# Altium integrated library AD Operational Amplifier.IntLib: 1114 symbols (part 1 of 13)
Pins are listed as number, name and electrical type; pins without a type are passive.

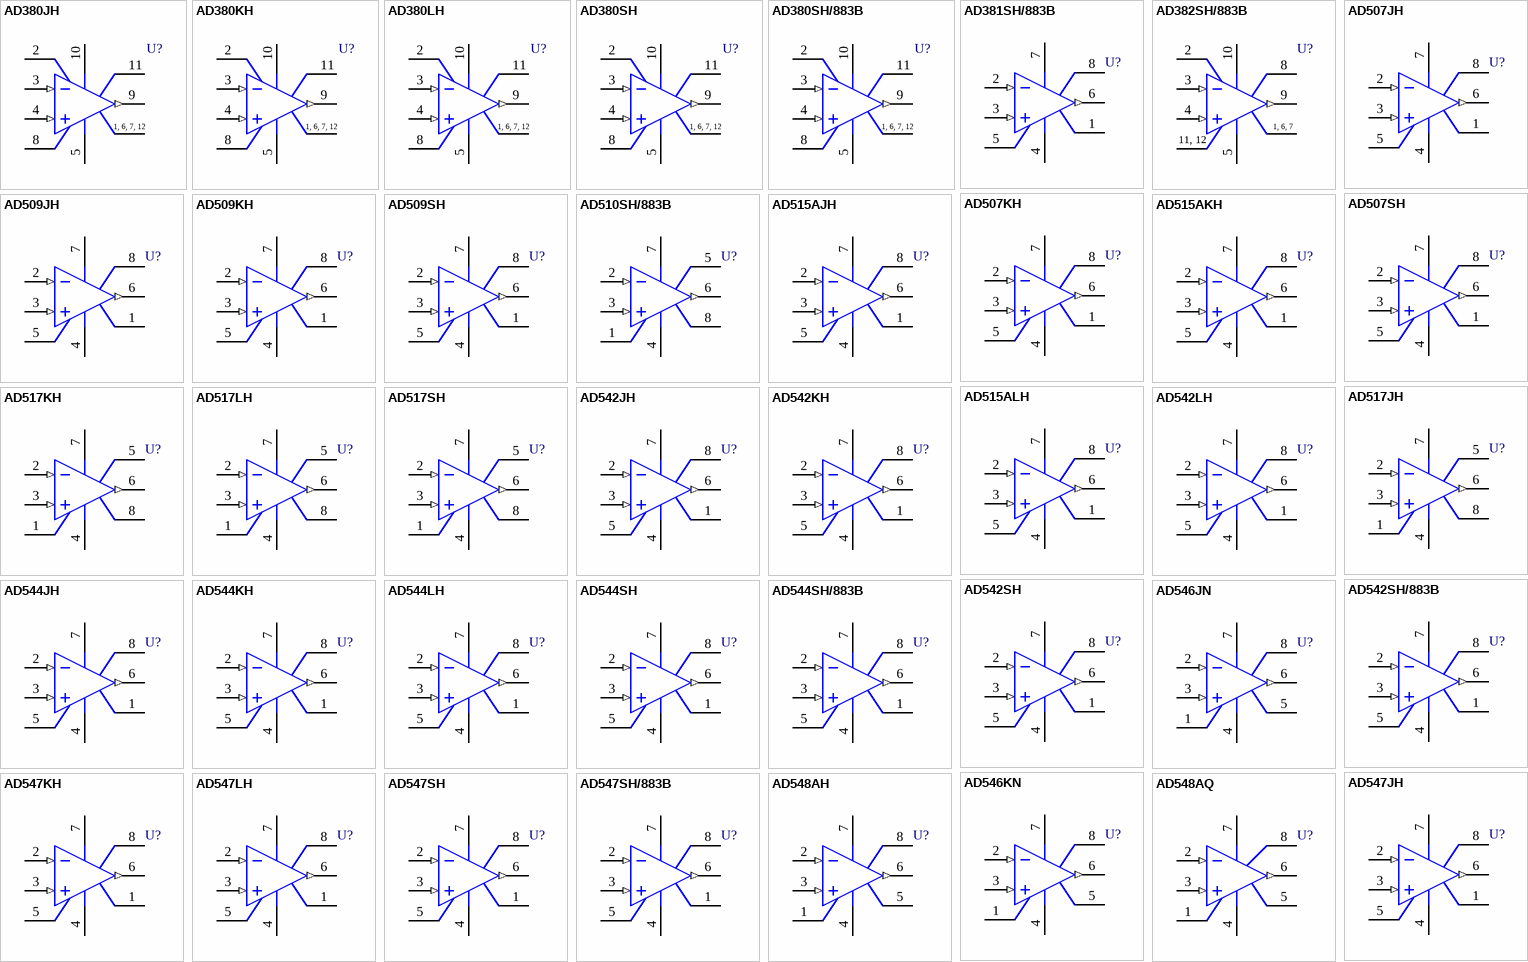
[diagram p0: symbols AD380JH to AD548AQ]

## AD380JH
designator U?
Wideband, Fast-Settling FET-Input Operational Amplifier; Package Information: Latest Revision: revC, 1990; Published: 8-Jun-2000; Revision: 17-Jul-2002: Re-released for DXP Platform.; Datasheet: Amplifier Reference Manual (1992); Package Reference: H-12A; Publisher: Altium Limited
footprint H-12A (Can; 12 Leads; 10.16 mm Square Array; Lead Dia. 0.53 mm (max))
pins: 1 NC, 2 OS NUL, 3 IN- (in), 4 IN+ (in), 5 V- (power), 6 NC, 7 NC, 8 OS NUL, 9 OUT (out), 10 V+ (power), 11 COMP, 12 NC
text: 1, 6, 7, 12

## AD380KH
designator U?
Wideband, Fast-Settling FET-Input Operational Amplifier; Package Information: Latest Revision: revC, 1990; Published: 8-Jun-2000; Revision: 17-Jul-2002: Re-released for DXP Platform.; Datasheet: Amplifier Reference Manual (1992); Package Reference: H-12A; Publisher: Altium Limited
footprint H-12A (Can; 12 Leads; 10.16 mm Square Array; Lead Dia. 0.53 mm (max))
pins: 1 NC, 2 OS NUL, 3 IN- (in), 4 IN+ (in), 5 V- (power), 6 NC, 7 NC, 8 OS NUL, 9 OUT (out), 10 V+ (power), 11 COMP, 12 NC
text: 1, 6, 7, 12

## AD380LH
designator U?
Wideband, Fast-Settling FET-Input Operational Amplifier; Package Information: Latest Revision: revC, 1990; Published: 8-Jun-2000; Revision: 17-Jul-2002: Re-released for DXP Platform.; Datasheet: Amplifier Reference Manual (1992); Package Reference: H-12A; Publisher: Altium Limited
footprint H-12A (Can; 12 Leads; 10.16 mm Square Array; Lead Dia. 0.53 mm (max))
pins: 1 NC, 2 OS NUL, 3 IN- (in), 4 IN+ (in), 5 V- (power), 6 NC, 7 NC, 8 OS NUL, 9 OUT (out), 10 V+ (power), 11 COMP, 12 NC
text: 1, 6, 7, 12

## AD380SH
designator U?
Wideband, Fast-Settling FET-Input Operational Amplifier; Package Information: Latest Revision: revC, 1990; Published: 8-Jun-2000; Revision: 17-Jul-2002: Re-released for DXP Platform.; Datasheet: Amplifier Reference Manual (1992); Package Reference: H-12A; Publisher: Altium Limited
footprint H-12A (Can; 12 Leads; 10.16 mm Square Array; Lead Dia. 0.53 mm (max))
pins: 1 NC, 2 OS NUL, 3 IN- (in), 4 IN+ (in), 5 V- (power), 6 NC, 7 NC, 8 OS NUL, 9 OUT (out), 10 V+ (power), 11 COMP, 12 NC
text: 1, 6, 7, 12

## AD380SH/883B
designator U?
High-Speed, Low-Drift FET Operational Amplifier; Package Information: Latest Revision: revC, 1990; Published: 8-Jun-2000; Revision: 17-Jul-2002: Re-released for DXP Platform.; Datasheet: Latest Revision: REV. C 1990; Package Reference: H-12A; Publisher: Altium Limited
footprint H-12A (Can; 12 Leads; 10.16 mm Square Array; Lead Dia. 0.53 mm (max))
pins: 1 NC, 2 OS NUL, 3 IN- (in), 4 IN+ (in), 5 V- (power), 6 NC, 7 NC, 8 OS NUL, 9 OUT (out), 10 V+ (power), 11 COMP, 12 NC
text: 1, 6, 7, 12

## AD381SH/883B
designator U?
High-Speed, Low Drift FET Operational Amplifier; Package Information: Latest Revision: 1990; Code - JEDEC: MO-006-AH; Published: 8-Jun-2000; Revision: 17-Jul-2002: Re-released for DXP Platform.; Datasheet: Latest Revision: REV. C 1990; Package Reference: H-08B; Publisher: Altium Limited
footprint H-08B (Can; 8 Leads; Pin Circle Dia. 5.84 mm; Lead Dia. 0.53 mm (max))
pins: 1 OS NUL, 2 IN- (in), 3 IN+ (in), 4 V- (power), 5 OS NUL, 6 OUT (out), 7 V+ (power), 8 TAB

## AD382SH/883B
designator U?
High-Speed, Low Drift FET Operational Amplifier; Package Information: Latest Revision: revC, 1990; Note: Pins 1, 6, 7, 11 and 12 are not connected; Published: 8-Jun-2000; Revision: 17-Jul-2002: Re-released for DXP Platform.; Datasheet: Latest Revision: REV. C 1990; Package Reference: H-12A; Publisher: Altium Limited
footprint H-12A (Can; 12 Leads; 10.16 mm Square Array; Lead Dia. 0.53 mm (max))
pins: 1 NC, 2 OS NUL, 3 IN- (in), 4 IN+ (in), 5 V- (power), 6 NC, 7 NC, 8 OS NUL, 9 OUT (out), 10 V+ (power), 11 NC, 12 NC
text: 1, 6, 7; 11, 12

## AD507JH
designator U?
IC, Wideband, Fast Slewing, General Purpose Operational Amplifier; Package Information: Latest Revision: 1990; Published: 8-Jun-2000; Revision: 17-Jul-2002: Re-released for DXP Platform.; Datasheet: Amplifier Reference Manual (1992); Package Reference: H-08A; Publisher: Altium Limited
footprint H-08A (Can; 8 Leads; Pin Circle Dia. 5.08 mm; Lead Dia. 0.53 mm (max))
pins: 1 OS NUL, 2 IN- (in), 3 IN+ (in), 4 V- (power), 5 OS NUL, 6 OUT (out), 7 V+ (power), 8 F CMPEN

## AD507KH
designator U?
IC, Wideband, Fast Slewing, General Purpose Operational Amplifier; Package Information: Latest Revision: 1990; Published: 8-Jun-2000; Revision: 17-Jul-2002: Re-released for DXP Platform.; Datasheet: Amplifier Reference Manual (1992); Package Reference: H-08A; Publisher: Altium Limited
footprint H-08A (Can; 8 Leads; Pin Circle Dia. 5.08 mm; Lead Dia. 0.53 mm (max))
pins: 1 OS NUL, 2 IN- (in), 3 IN+ (in), 4 V- (power), 5 OS NUL, 6 OUT (out), 7 V+ (power), 8 F CMPEN

## AD507SH
designator U?
IC, Wideband, Fast Slewing, General Purpose Operational Amplifier; Package Information: Latest Revision: 1990; Published: 8-Jun-2000; Revision: 17-Jul-2002: Re-released for DXP Platform.; Datasheet: Amplifier Reference Manual (1992); Package Reference: H-08A; Publisher: Altium Limited
footprint H-08A (Can; 8 Leads; Pin Circle Dia. 5.08 mm; Lead Dia. 0.53 mm (max))
pins: 1 OS NUL, 2 IN- (in), 3 IN+ (in), 4 V- (power), 5 OS NUL, 6 OUT (out), 7 V+ (power), 8 F CMPEN

## AD509JH
designator U?
High-Speed, Fast-Settling IC Operational Amplifier; Package Information: Latest Revision: 1990; Published: 8-Jun-2000; Revision: 17-Jul-2002: Re-released for DXP Platform.; Datasheet: Amplifier Reference Manual (1992); Package Reference: H-08A; Publisher: Altium Limited
footprint H-08A (Can; 8 Leads; Pin Circle Dia. 5.08 mm; Lead Dia. 0.53 mm (max))
pins: 1 OS NUL, 2 IN- (in), 3 IN+ (in), 4 V- (power), 5 OS NUL, 6 OUT (out), 7 V+ (power), 8 F CMPEN

## AD509KH
designator U?
High-Speed, Fast-Settling IC Operational Amplifier; Package Information: Latest Revision: 1990; Published: 8-Jun-2000; Revision: 17-Jul-2002: Re-released for DXP Platform.; Datasheet: Amplifier Reference Manual (1992); Package Reference: H-08A; Publisher: Altium Limited
footprint H-08A (Can; 8 Leads; Pin Circle Dia. 5.08 mm; Lead Dia. 0.53 mm (max))
pins: 1 OS NUL, 2 IN- (in), 3 IN+ (in), 4 V- (power), 5 OS NUL, 6 OUT (out), 7 V+ (power), 8 F CMPEN

## AD509SH
designator U?
High-Speed, Fast-Settling IC Operational Amplifier; Package Information: Latest Revision: 1990; Published: 8-Jun-2000; Revision: 17-Jul-2002: Re-released for DXP Platform.; Datasheet: Amplifier Reference Manual (1992); Package Reference: H-08A; Publisher: Altium Limited
footprint H-08A (Can; 8 Leads; Pin Circle Dia. 5.08 mm; Lead Dia. 0.53 mm (max))
pins: 1 OS NUL, 2 IN- (in), 3 IN+ (in), 4 V- (power), 5 OS NUL, 6 OUT (out), 7 V+ (power), 8 F CMPEN

## AD510SH/883B
designator U?
Low Cost, Laser-Trimmed, Precision IC Op Amp; Package Information: Latest Revision: 1990; Note: Pin 5 is not connected.; Published: 8-Jun-2000; Revision: 17-Jul-2002: Re-released for DXP Platform.; Datasheet: Latest Revision: REV. B 1990; Package Reference: H-08A; Publisher: Altium Limited
footprint H-08A (Can; 8 Leads; Pin Circle Dia. 5.08 mm; Lead Dia. 0.53 mm (max))
pins: 1 OS NULL, 2 IN- (in), 3 IN+ (in), 4 V- (power), 5 NC, 6 OUT (out), 7 V+ (power), 8 OS NULL

## AD515AJH
designator U?
Monolithic Precision, Low-Power FET-Input Electrometer Op Amp; Package Information: Latest Revision: 1997; Note: Guard Pin 8 connected to case; Published: 8-Jun-2000; Revision: 17-Jul-2002: Re-released for DXP Platform.; Datasheet: Designer's Reference Manual CD (REV. A 1997); Package Reference: H-08A_A; Publisher: Altium Limited
footprint H-08A_A (Can; 8 Leads; Pin Circle Dia. 5.08 mm; Lead Dia. 0.48 mm (max))
pins: 1 OS NUL, 2 IN- (in), 3 IN+ (in), 4 V- (power), 5 OS NUL, 6 OUT (out), 7 V+ (power), 8 TAB

## AD515AKH
designator U?
Monolithic Precision, Low-Power FET-Input Electrometer Op Amp; Package Information: Latest Revision: 1997; Note: Guard Pin 8 connected to case; Published: 8-Jun-2000; Revision: 17-Jul-2002: Re-released for DXP Platform.; Datasheet: Designer's Reference Manual CD (REV. A 1997); Package Reference: H-08A_A; Publisher: Altium Limited
footprint H-08A_A (Can; 8 Leads; Pin Circle Dia. 5.08 mm; Lead Dia. 0.48 mm (max))
pins: 1 OS NUL, 2 IN- (in), 3 IN+ (in), 4 V- (power), 5 OS NUL, 6 OUT (out), 7 V+ (power), 8 TAB

## AD515ALH
designator U?
Monolithic Precision, Low-Power FET-Input Electrometer Op Amp; Package Information: Latest Revision: 1997; Note: Guard Pin 8 connected to case; Published: 8-Jun-2000; Revision: 17-Jul-2002: Re-released for DXP Platform.; Datasheet: Designer's Reference Manual CD (REV. A 1997); Package Reference: H-08A_A; Publisher: Altium Limited
footprint H-08A_A (Can; 8 Leads; Pin Circle Dia. 5.08 mm; Lead Dia. 0.48 mm (max))
pins: 1 OS NUL, 2 IN- (in), 3 IN+ (in), 4 V- (power), 5 OS NUL, 6 OUT (out), 7 V+ (power), 8 TAB

## AD517JH
designator U?
Low Cost, Laser Trimmed, Precision IC Operational Amplifier; Package Information: Latest Revision: 1990; Note: Pin 5 is not connected.; Code - JEDEC: MO-006-AH; Published: 8-Jun-2000; Revision: 17-Jul-2002: Re-released for DXP Platform.; Datasheet: Amplifier Reference Manual (1992); Package Reference: H-08B; Publisher: Altium Limited
footprint H-08B (Can; 8 Leads; Pin Circle Dia. 5.84 mm; Lead Dia. 0.53 mm (max))
pins: 1 OS NULL, 2 IN- (in), 3 IN+ (in), 4 V- (power), 5 NC, 6 OUT (out), 7 V+ (power), 8 OS NULL

## AD517KH
designator U?
Low Cost, Laser Trimmed, Precision IC Operational Amplifier; Package Information: Latest Revision: 1990; Note: Pin 5 is not connected.; Code - JEDEC: MO-006-AH; Published: 8-Jun-2000; Revision: 17-Jul-2002: Re-released for DXP Platform.; Datasheet: Amplifier Reference Manual (1992); Package Reference: H-08B; Publisher: Altium Limited
footprint H-08B (Can; 8 Leads; Pin Circle Dia. 5.84 mm; Lead Dia. 0.53 mm (max))
pins: 1 OS NULL, 2 IN- (in), 3 IN+ (in), 4 V- (power), 5 NC, 6 OUT (out), 7 V+ (power), 8 OS NULL

## AD517LH
designator U?
Low Cost, Laser Trimmed, Precision IC Operational Amplifier; Package Information: Latest Revision: 1990; Note: Pin 5 is not connected.; Code - JEDEC: MO-006-AH; Published: 8-Jun-2000; Revision: 17-Jul-2002: Re-released for DXP Platform.; Datasheet: Amplifier Reference Manual (1992); Package Reference: H-08B; Publisher: Altium Limited
footprint H-08B (Can; 8 Leads; Pin Circle Dia. 5.84 mm; Lead Dia. 0.53 mm (max))
pins: 1 OS NULL, 2 IN- (in), 3 IN+ (in), 4 V- (power), 5 NC, 6 OUT (out), 7 V+ (power), 8 OS NULL

## AD517SH
designator U?
Low Cost, Laser Trimmed, Precision IC Operational Amplifier; Package Information: Latest Revision: 1990; Note: Pin 5 is not connected.; Code - JEDEC: MO-006-AH; Published: 8-Jun-2000; Revision: 17-Jul-2002: Re-released for DXP Platform.; Datasheet: Amplifier Reference Manual (1992); Package Reference: H-08B; Publisher: Altium Limited
footprint H-08B (Can; 8 Leads; Pin Circle Dia. 5.84 mm; Lead Dia. 0.53 mm (max))
pins: 1 OS NULL, 2 IN- (in), 3 IN+ (in), 4 V- (power), 5 NC, 6 OUT (out), 7 V+ (power), 8 OS NULL

## AD542JH
designator U?
High Performance, BiFET Operational Amplifier; Package Information: Latest Revision: revB; Note: Pin 4 connected to case.; Code - JEDEC: MO-006-AH; Published: 8-Jun-2000; Revision: 17-Jul-2002: Re-released for DXP Platform.; Datasheet: Latest Revision: REV. B; Package Reference: H-08A_B; Publisher: Altium Limited
footprint H-08A_B (Can; 8 Leads; Pin Circle Dia. 5.84 mm; Lead Dia. 0.53 mm (max))
pins: 1 NUL, 2 IN- (in), 3 IN+ (in), 4 V- (power), 5 NUL, 6 OUT (out), 7 V+ (power), 8 TAB

## AD542KH
designator U?
High Performance, BiFET Operational Amplifier; Package Information: Latest Revision: revB; Note: Pin 4 connected to case.; Code - JEDEC: MO-006-AH; Published: 8-Jun-2000; Revision: 17-Jul-2002: Re-released for DXP Platform.; Datasheet: Latest Revision: REV. B; Package Reference: H-08A_B; Publisher: Altium Limited
footprint H-08A_B (Can; 8 Leads; Pin Circle Dia. 5.84 mm; Lead Dia. 0.53 mm (max))
pins: 1 NUL, 2 IN- (in), 3 IN+ (in), 4 V- (power), 5 NUL, 6 OUT (out), 7 V+ (power), 8 TAB

## AD542LH
designator U?
High Performance, BiFET Operational Amplifier; Package Information: Latest Revision: revB; Note: Pin 4 connected to case.; Code - JEDEC: MO-006-AH; Published: 8-Jun-2000; Revision: 17-Jul-2002: Re-released for DXP Platform.; Datasheet: Latest Revision: REV. B; Package Reference: H-08A_B; Publisher: Altium Limited
footprint H-08A_B (Can; 8 Leads; Pin Circle Dia. 5.84 mm; Lead Dia. 0.53 mm (max))
pins: 1 NUL, 2 IN- (in), 3 IN+ (in), 4 V- (power), 5 NUL, 6 OUT (out), 7 V+ (power), 8 TAB

## AD542SH
designator U?
High Performance, BiFET Operational Amplifier; Package Information: Latest Revision: revB; Note: Pin 4 connected to case.; Code - JEDEC: MO-006-AH; Published: 8-Jun-2000; Revision: 17-Jul-2002: Re-released for DXP Platform.; Datasheet: Latest Revision: REV. B; Package Reference: H-08A_B; Publisher: Altium Limited
footprint H-08A_B (Can; 8 Leads; Pin Circle Dia. 5.84 mm; Lead Dia. 0.53 mm (max))
pins: 1 NUL, 2 IN- (in), 3 IN+ (in), 4 V- (power), 5 NUL, 6 OUT (out), 7 V+ (power), 8 TAB

## AD542SH/883B
designator U?
High Performance, BiFET Operational Amplifier; Package Information: Latest Revision: revB; Note: Pin 4 connected to case.; Code - JEDEC: MO-006-AH; Published: 8-Jun-2000; Revision: 17-Jul-2002: Re-released for DXP Platform.; Datasheet: Latest Revision: REV. B; Package Reference: H-08A_B; Publisher: Altium Limited
footprint H-08A_B (Can; 8 Leads; Pin Circle Dia. 5.84 mm; Lead Dia. 0.53 mm (max))
pins: 1 NUL, 2 IN- (in), 3 IN+ (in), 4 V- (power), 5 NUL, 6 OUT (out), 7 V+ (power), 8 TAB

## AD544JH
designator U?
High Performance, BiFET Operational Amplifier; Package Information: Latest Revision: revB; Note: Pin 4 connected to case.; Code - JEDEC: MO-006-AH; Published: 8-Jun-2000; Revision: 17-Jul-2002: Re-released for DXP Platform.; Datasheet: Latest Revision: REV. B; Package Reference: H-08A_B; Publisher: Altium Limited
footprint H-08A_B (Can; 8 Leads; Pin Circle Dia. 5.84 mm; Lead Dia. 0.53 mm (max))
pins: 1 NUL, 2 IN- (in), 3 IN+ (in), 4 V- (power), 5 NUL, 6 OUT (out), 7 V+ (power), 8 TAB

## AD544KH
designator U?
High Performance, BiFET Operational Amplifier; Package Information: Latest Revision: revB; Note: Pin 4 connected to case.; Code - JEDEC: MO-006-AH; Published: 8-Jun-2000; Revision: 17-Jul-2002: Re-released for DXP Platform.; Datasheet: Latest Revision: REV. B; Package Reference: H-08A_B; Publisher: Altium Limited
footprint H-08A_B (Can; 8 Leads; Pin Circle Dia. 5.84 mm; Lead Dia. 0.53 mm (max))
pins: 1 NUL, 2 IN- (in), 3 IN+ (in), 4 V- (power), 5 NUL, 6 OUT (out), 7 V+ (power), 8 TAB

## AD544LH
designator U?
High Performance, BiFET Operational Amplifier; Package Information: Latest Revision: revB; Note: Pin 4 connected to case.; Code - JEDEC: MO-006-AH; Published: 8-Jun-2000; Revision: 17-Jul-2002: Re-released for DXP Platform.; Datasheet: Latest Revision: REV. B; Package Reference: H-08A_B; Publisher: Altium Limited
footprint H-08A_B (Can; 8 Leads; Pin Circle Dia. 5.84 mm; Lead Dia. 0.53 mm (max))
pins: 1 NUL, 2 IN- (in), 3 IN+ (in), 4 V- (power), 5 NUL, 6 OUT (out), 7 V+ (power), 8 TAB

## AD544SH
designator U?
High Performance, BiFET Operational Amplifier; Package Information: Latest Revision: revB; Note: Pin 4 connected to case.; Code - JEDEC: MO-006-AH; Published: 8-Jun-2000; Revision: 17-Jul-2002: Re-released for DXP Platform.; Datasheet: Latest Revision: REV. B; Package Reference: H-08A_B; Publisher: Altium Limited
footprint H-08A_B (Can; 8 Leads; Pin Circle Dia. 5.84 mm; Lead Dia. 0.53 mm (max))
pins: 1 NUL, 2 IN- (in), 3 IN+ (in), 4 V- (power), 5 NUL, 6 OUT (out), 7 V+ (power), 8 TAB

## AD544SH/883B
designator U?
High Performance, BiFET Operational Amplifier; Package Information: Latest Revision: revB; Note: Pin 4 connected to case.; Code - JEDEC: MO-006-AH; Published: 8-Jun-2000; Revision: 17-Jul-2002: Re-released for DXP Platform.; Datasheet: Latest Revision: REV. B; Package Reference: H-08A_B; Publisher: Altium Limited
footprint H-08A_B (Can; 8 Leads; Pin Circle Dia. 5.84 mm; Lead Dia. 0.53 mm (max))
pins: 1 NUL, 2 IN- (in), 3 IN+ (in), 4 V- (power), 5 NUL, 6 OUT (out), 7 V+ (power), 8 TAB

## AD546JN
designator U?
1 pA Monolithic Electrometer Operational Amplifier; Package Information: Latest Revision: revA; Note: Pin 8 is not connected.; Published: 8-Jun-2000; Revision: 17-Jul-2002: Re-released for DXP Platform.; Datasheet: Latest Revision: REV. A; Package Reference: N-8; Publisher: Altium Limited
footprint N-8 (DIP; 8 Leads; Row Spacing 7.62 mm; Pitch 2.54 mm)
pins: 1 NUL, 2 IN- (in), 3 IN+ (in), 4 V- (power), 5 NUL, 6 OUT (out), 7 V+ (power), 8 NC

## AD546KN
designator U?
1 pA Monolithic Electrometer Operational Amplifier; Package Information: Latest Revision: revA; Note: Pin 8 is not connected.; Published: 8-Jun-2000; Revision: 17-Jul-2002: Re-released for DXP Platform.; Datasheet: Latest Revision: REV. A; Package Reference: N-8; Publisher: Altium Limited
footprint N-8 (DIP; 8 Leads; Row Spacing 7.62 mm; Pitch 2.54 mm)
pins: 1 NUL, 2 IN- (in), 3 IN+ (in), 4 V- (power), 5 NUL, 6 OUT (out), 7 V+ (power), 8 NC

## AD547JH
designator U?
High Performance, BiFET Operational Amplifier; Package Information: Latest Revision: revB; Note: Pin 4 connected to case.; Code - JEDEC: MO-006-AH; Published: 8-Jun-2000; Revision: 17-Jul-2002: Re-released for DXP Platform.; Datasheet: Latest Revision: REV. B; Package Reference: H-08A_B; Publisher: Altium Limited
footprint H-08A_B (Can; 8 Leads; Pin Circle Dia. 5.84 mm; Lead Dia. 0.53 mm (max))
pins: 1 NUL, 2 IN- (in), 3 IN+ (in), 4 V- (power), 5 NUL, 6 OUT (out), 7 V+ (power), 8 TAB

## AD547KH
designator U?
High Performance, BiFET Operational Amplifier; Package Information: Latest Revision: revB; Note: Pin 4 connected to case.; Code - JEDEC: MO-006-AH; Published: 8-Jun-2000; Revision: 17-Jul-2002: Re-released for DXP Platform.; Datasheet: Latest Revision: REV. B; Package Reference: H-08A_B; Publisher: Altium Limited
footprint H-08A_B (Can; 8 Leads; Pin Circle Dia. 5.84 mm; Lead Dia. 0.53 mm (max))
pins: 1 NUL, 2 IN- (in), 3 IN+ (in), 4 V- (power), 5 NUL, 6 OUT (out), 7 V+ (power), 8 TAB

## AD547LH
designator U?
High Performance, BiFET Operational Amplifier; Package Information: Latest Revision: revB; Note: Pin 4 connected to case.; Code - JEDEC: MO-006-AH; Published: 8-Jun-2000; Revision: 17-Jul-2002: Re-released for DXP Platform.; Datasheet: Latest Revision: REV. B; Package Reference: H-08A_B; Publisher: Altium Limited
footprint H-08A_B (Can; 8 Leads; Pin Circle Dia. 5.84 mm; Lead Dia. 0.53 mm (max))
pins: 1 NUL, 2 IN- (in), 3 IN+ (in), 4 V- (power), 5 NUL, 6 OUT (out), 7 V+ (power), 8 TAB

## AD547SH
designator U?
High Performance, BiFET Operational Amplifier; Package Information: Latest Revision: 1990; Note: Pin 8 connected to case; Published: 8-Jun-2000; Revision: 17-Jul-2002: Re-released for DXP Platform.; Datasheet: Amplifier Reference Manual (1992); Package Reference: H-08A; Publisher: Altium Limited
footprint H-08A (Can; 8 Leads; Pin Circle Dia. 5.08 mm; Lead Dia. 0.53 mm (max))
pins: 1 NUL, 2 IN- (in), 3 IN+ (in), 4 V- (power), 5 NUL, 6 OUT (out), 7 V+ (power), 8 TAB

## AD547SH/883B
designator U?
High Performance, BiFET Operational Amplifier; Package Information: Latest Revision: revB; Note: Pin 4 connected to case.; Code - JEDEC: MO-006-AH; Published: 8-Jun-2000; Revision: 17-Jul-2002: Re-released for DXP Platform.; Datasheet: Latest Revision: REV. B; Package Reference: H-08A_B; Publisher: Altium Limited
footprint H-08A_B (Can; 8 Leads; Pin Circle Dia. 5.84 mm; Lead Dia. 0.53 mm (max))
pins: 1 NUL, 2 IN- (in), 3 IN+ (in), 4 V- (power), 5 NUL, 6 OUT (out), 7 V+ (power), 8 TAB

## AD548AH
designator U?
Precision, Low-Power BiFET Op Amp; Package Information: Latest Revision: 1993; Note: Pin 4 connected to case; Pin 8 is not connected.; Published: 8-Jun-2000; Revision: 17-Jul-2002: Re-released for DXP Platform.; Datasheet: Latest Revision: REV. C; Package Reference: H-08A_D; Publisher: Altium Limited
footprint H-08A_D (Can; 8 Leads; Pin Circle Dia. 5.08 mm; Lead Dia. 0.48 mm (max))
pins: 1 OS NULL, 2 IN- (in), 3 IN+ (in), 4 V- (power), 5 OS NULL, 6 OUT (out), 7 V+ (power), 8 NC

## AD548AQ
designator U?
Precision, Low-Power BiFET Op Amp; Package Information: Latest Revision: 1998; Note: Pin 8 is not connected.; Published: 8-Jun-2000; Revision: 17-Jul-2002: Re-released for DXP Platform.; Datasheet: Latest Revision: REV. C; Package Reference: Q-8; Publisher: Altium Limited
footprint Q-8 (DIP; 8 Leads; Row Spacing 7.62 mm; Pitch 2.54 mm)
pins: 1 OS NULL, 2 IN- (in), 3 IN+ (in), 4 V- (power), 5 OS NULL, 6 OUT (out), 7 V+ (power), 8 NC

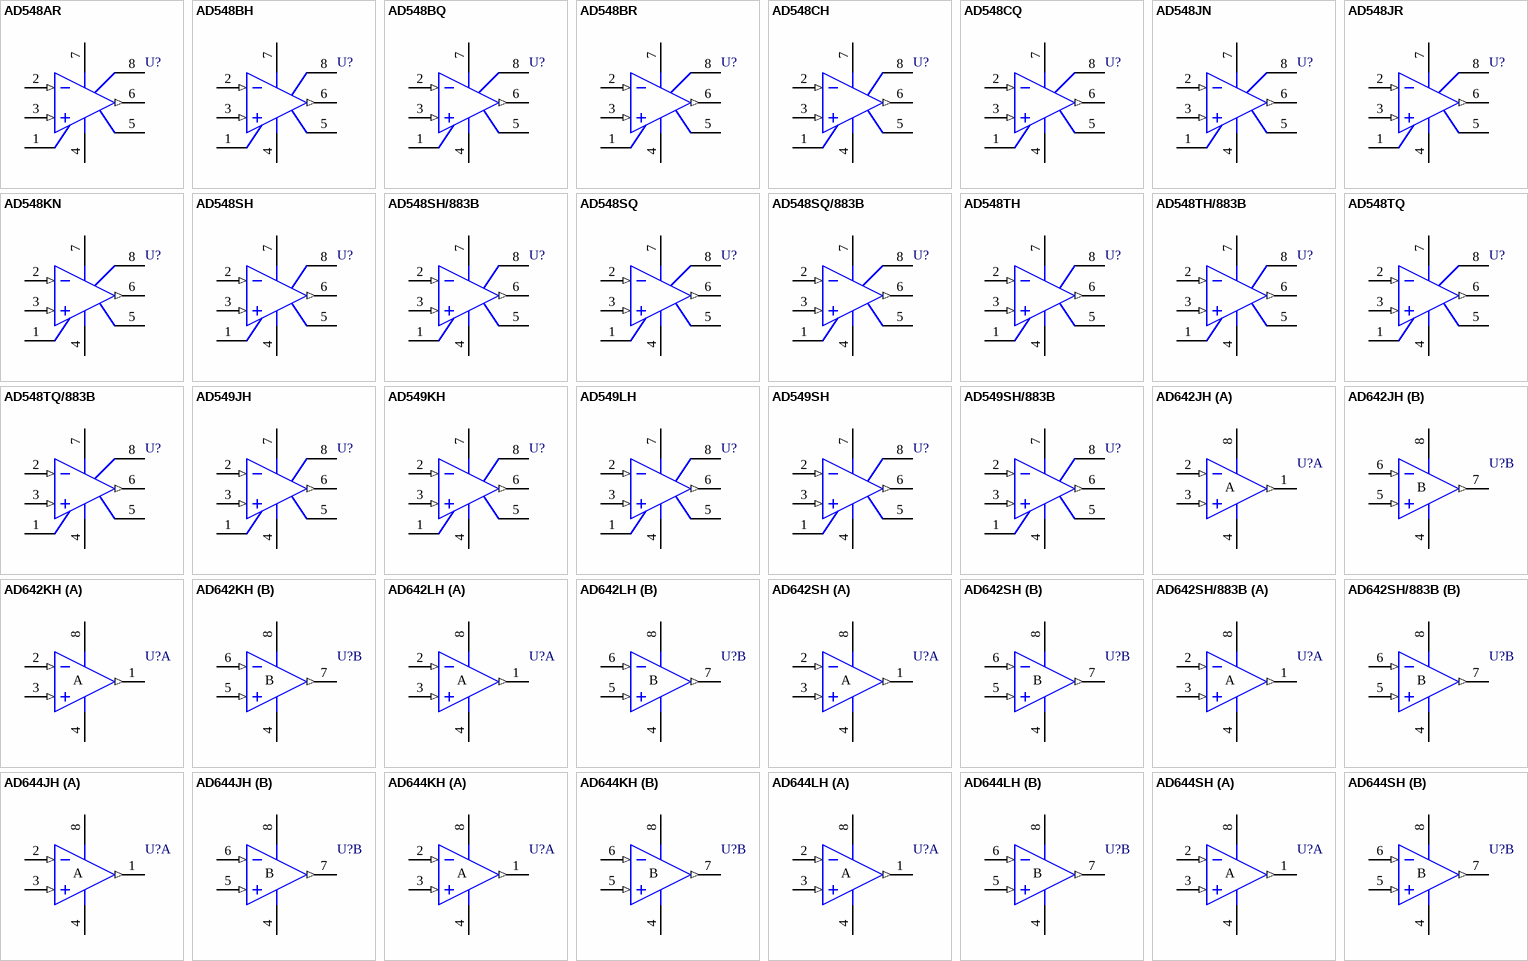
[diagram p1: symbols AD548AR to AD644SH]

## AD548AR
designator U?
Precision, Low-Power BiFET Op Amp; Note: Pin 8 is not connected.; Code - JEDEC: MS-012-AA; Code - IPC: SO8; Published: 8-Jun-2000; Revision: 17-Jul-2002: Re-released for DXP Platform.; Datasheet: Amplifier Reference Manual (1992); Package Reference: R-8; Publisher: Altium Limited
footprint R-8 (Small Outline; 8 Leads; Body Width 3.9 mm; Pitch 1.27 mm)
pins: 1 OS NULL, 2 IN- (in), 3 IN+ (in), 4 V- (power), 5 OS NULL, 6 OUT (out), 7 V+ (power), 8 NC

## AD548BH
designator U?
Precision, Low-Power BiFET Op Amp; Package Information: Latest Revision: 1993; Note: Pin 4 connected to case; Pin 8 is not connected.; Published: 8-Jun-2000; Revision: 17-Jul-2002: Re-released for DXP Platform.; Datasheet: Latest Revision: REV. C; Package Reference: H-08A_D; Publisher: Altium Limited
footprint H-08A_D (Can; 8 Leads; Pin Circle Dia. 5.08 mm; Lead Dia. 0.48 mm (max))
pins: 1 OS NULL, 2 IN- (in), 3 IN+ (in), 4 V- (power), 5 OS NULL, 6 OUT (out), 7 V+ (power), 8 NC

## AD548BQ
designator U?
Precision, Low-Power BiFET Op Amp; Package Information: Latest Revision: 1998; Note: Pin 8 is not connected.; Published: 8-Jun-2000; Revision: 17-Jul-2002: Re-released for DXP Platform.; Datasheet: Amplifier Reference Manual (1992); Package Reference: Q-8; Publisher: Altium Limited
footprint Q-8 (DIP; 8 Leads; Row Spacing 7.62 mm; Pitch 2.54 mm)
pins: 1 OS NULL, 2 IN- (in), 3 IN+ (in), 4 V- (power), 5 OS NULL, 6 OUT (out), 7 V+ (power), 8 NC

## AD548BR
designator U?
Precision, Low-Power BiFET Op Amp; Package Information: Latest Revision: REV. B; Note: Pin 8 is not connected.; Code - JEDEC: MS-012-AA; Code - IPC: SO8; Published: 8-Jun-2000; Revision: 17-Jul-2002: Re-released for DXP Platform.; Datasheet: Latest Revision: REV. C; Package Reference: R-8; Publisher: Altium Limited
footprint R-8 (Small Outline; 8 Leads; Body Width 3.9 mm; Pitch 1.27 mm)
pins: 1 OS NULL, 2 IN- (in), 3 IN+ (in), 4 V- (power), 5 OS NULL, 6 OUT (out), 7 V+ (power), 8 NC

## AD548CH
designator U?
Precision, Low-Power BiFET Op Amp; Package Information: Latest Revision: 1990; Note: Pin 4 connected to case; Pin 8 is not connected.; Published: 8-Jun-2000; Revision: 17-Jul-2002: Re-released for DXP Platform.; Datasheet: Amplifier Reference Manual (1992); Package Reference: H-08A; Publisher: Altium Limited
footprint H-08A (Can; 8 Leads; Pin Circle Dia. 5.08 mm; Lead Dia. 0.53 mm (max))
pins: 1 OS NULL, 2 IN- (in), 3 IN+ (in), 4 V- (power), 5 OS NULL, 6 OUT (out), 7 V+ (power), 8 NC

## AD548CQ
designator U?
Precision, Low-Power BiFET Op Amp; Package Information: Latest Revision: 1998; Note: Pin 8 is not connected.; Published: 8-Jun-2000; Revision: 17-Jul-2002: Re-released for DXP Platform.; Datasheet: Latest Revision: REV. C; Package Reference: Q-8; Publisher: Altium Limited
footprint Q-8 (DIP; 8 Leads; Row Spacing 7.62 mm; Pitch 2.54 mm)
pins: 1 OS NULL, 2 IN- (in), 3 IN+ (in), 4 V- (power), 5 OS NULL, 6 OUT (out), 7 V+ (power), 8 NC

## AD548JN
designator U?
Precision, Low-Power BiFET Op Amp; Package Information: Latest Revision: revA; Note: Pin 8 is not connected.; Published: 8-Jun-2000; Revision: 17-Jul-2002: Re-released for DXP Platform.; Datasheet: Latest Revision: REV. C; Package Reference: N-8; Publisher: Altium Limited
footprint N-8 (DIP; 8 Leads; Row Spacing 7.62 mm; Pitch 2.54 mm)
pins: 1 OS NULL, 2 IN- (in), 3 IN+ (in), 4 V- (power), 5 OS NULL, 6 OUT (out), 7 V+ (power), 8 NC

## AD548JR
designator U?
Precision, Low-Power BiFET Op Amp; Package Information: Latest Revision: REV. B; Note: Pin 8 is not connected.; Code - JEDEC: MS-012-AA; Code - IPC: SO8; Published: 8-Jun-2000; Revision: 17-Jul-2002: Re-released for DXP Platform.; Datasheet: Latest Revision: REV. C; Package Reference: R-8; Publisher: Altium Limited
footprint R-8 (Small Outline; 8 Leads; Body Width 3.9 mm; Pitch 1.27 mm)
pins: 1 OS NULL, 2 IN- (in), 3 IN+ (in), 4 V- (power), 5 OS NULL, 6 OUT (out), 7 V+ (power), 8 NC

## AD548KN
designator U?
Precision, Low-Power BiFET Op Amp; Package Information: Latest Revision: revA; Note: Pin 8 is not connected.; Published: 8-Jun-2000; Revision: 17-Jul-2002: Re-released for DXP Platform.; Datasheet: Latest Revision: REV. C; Package Reference: N-8; Publisher: Altium Limited
footprint N-8 (DIP; 8 Leads; Row Spacing 7.62 mm; Pitch 2.54 mm)
pins: 1 OS NULL, 2 IN- (in), 3 IN+ (in), 4 V- (power), 5 OS NULL, 6 OUT (out), 7 V+ (power), 8 NC

## AD548SH
designator U?
Precision, Low-Power BiFET Op Amp; Package Information: Latest Revision: 1990; Note: Pin 4 connected to case; Pin 8 is not connected.; Published: 8-Jun-2000; Revision: 17-Jul-2002: Re-released for DXP Platform.; Datasheet: Amplifier Reference Manual (1992); Package Reference: H-08A; Publisher: Altium Limited
footprint H-08A (Can; 8 Leads; Pin Circle Dia. 5.08 mm; Lead Dia. 0.53 mm (max))
pins: 1 OS NULL, 2 IN- (in), 3 IN+ (in), 4 V- (power), 5 OS NULL, 6 OUT (out), 7 V+ (power), 8 NC

## AD548SH/883B
designator U?
Precision, Low-Power BiFET Op Amp; Package Information: Latest Revision: 1990; Note: Pin 4 connected to case; Pin 8 is not connected.; Published: 8-Jun-2000; Revision: 17-Jul-2002: Re-released for DXP Platform.; Datasheet: Amplifier Reference Manual (1992); Package Reference: H-08A; Publisher: Altium Limited
footprint H-08A (Can; 8 Leads; Pin Circle Dia. 5.08 mm; Lead Dia. 0.53 mm (max))
pins: 1 OS NULL, 2 IN- (in), 3 IN+ (in), 4 V- (power), 5 OS NULL, 6 OUT (out), 7 V+ (power), 8 NC

## AD548SQ
designator U?
Precision, Low-Power BiFET Op Amp; Package Information: Latest Revision: 1998; Note: Pin 8 is not connected.; Published: 8-Jun-2000; Revision: 17-Jul-2002: Re-released for DXP Platform.; Datasheet: Amplifier Reference Manual (1992); Package Reference: Q-8; Publisher: Altium Limited
footprint Q-8 (DIP; 8 Leads; Row Spacing 7.62 mm; Pitch 2.54 mm)
pins: 1 OS NULL, 2 IN- (in), 3 IN+ (in), 4 V- (power), 5 OS NULL, 6 OUT (out), 7 V+ (power), 8 NC

## AD548SQ/883B
designator U?
Precision, Low-Power BiFET Op Amp; Package Information: Latest Revision: 1998; Note: Pin 8 is not connected.; Published: 8-Jun-2000; Revision: 17-Jul-2002: Re-released for DXP Platform.; Datasheet: Amplifier Reference Manual (1992); Package Reference: Q-8; Publisher: Altium Limited
footprint Q-8 (DIP; 8 Leads; Row Spacing 7.62 mm; Pitch 2.54 mm)
pins: 1 OS NULL, 2 IN- (in), 3 IN+ (in), 4 V- (power), 5 OS NULL, 6 OUT (out), 7 V+ (power), 8 NC

## AD548TH
designator U?
Precision, Low-Power BiFET Op Amp; Package Information: Latest Revision: 1990; Note: Pin 4 connected to case; Pin 8 is not connected.; Published: 8-Jun-2000; Revision: 17-Jul-2002: Re-released for DXP Platform.; Datasheet: Amplifier Reference Manual (1992); Package Reference: H-08A; Publisher: Altium Limited
footprint H-08A (Can; 8 Leads; Pin Circle Dia. 5.08 mm; Lead Dia. 0.53 mm (max))
pins: 1 OS NULL, 2 IN- (in), 3 IN+ (in), 4 V- (power), 5 OS NULL, 6 OUT (out), 7 V+ (power), 8 NC

## AD548TH/883B
designator U?
Precision, Low-Power BiFET Op Amp; Package Information: Latest Revision: 1990; Note: Pin 4 connected to case; Pin 8 is not connected.; Published: 8-Jun-2000; Revision: 17-Jul-2002: Re-released for DXP Platform.; Datasheet: Amplifier Reference Manual (1992); Package Reference: H-08A; Publisher: Altium Limited
footprint H-08A (Can; 8 Leads; Pin Circle Dia. 5.08 mm; Lead Dia. 0.53 mm (max))
pins: 1 OS NULL, 2 IN- (in), 3 IN+ (in), 4 V- (power), 5 OS NULL, 6 OUT (out), 7 V+ (power), 8 NC

## AD548TQ
designator U?
Precision, Low-Power BiFET Op Amp; Package Information: Latest Revision: 1998; Note: Pin 8 is not connected.; Published: 8-Jun-2000; Revision: 17-Jul-2002: Re-released for DXP Platform.; Datasheet: Amplifier Reference Manual (1992); Package Reference: Q-8; Publisher: Altium Limited
footprint Q-8 (DIP; 8 Leads; Row Spacing 7.62 mm; Pitch 2.54 mm)
pins: 1 OS NULL, 2 IN- (in), 3 IN+ (in), 4 V- (power), 5 OS NULL, 6 OUT (out), 7 V+ (power), 8 NC

## AD548TQ/883B
designator U?
Precision, Low-Power BiFET Op Amp; Package Information: Latest Revision: 1998; Note: Pin 8 is not connected.; Published: 8-Jun-2000; Revision: 17-Jul-2002: Re-released for DXP Platform.; Datasheet: Amplifier Reference Manual (1992); Package Reference: Q-8; Publisher: Altium Limited
footprint Q-8 (DIP; 8 Leads; Row Spacing 7.62 mm; Pitch 2.54 mm)
pins: 1 OS NULL, 2 IN- (in), 3 IN+ (in), 4 V- (power), 5 OS NULL, 6 OUT (out), 7 V+ (power), 8 NC

## AD549JH
designator U?
Ultra-Low Input Bias Current Operational Amplifier; Package Information: Latest Revision: 1993; Note: Guard Pin 8 connected to case; Published: 8-Jun-2000; Revision: 17-Jul-2002: Re-released for DXP Platform.; Datasheet: Latest Revision: REV. A; Package Reference: H-08A_D; Publisher: Altium Limited
footprint H-08A_D (Can; 8 Leads; Pin Circle Dia. 5.08 mm; Lead Dia. 0.48 mm (max))
pins: 1 OS NULL, 2 IN- (in), 3 IN+ (in), 4 V- (power), 5 OS NULL, 6 OUT (out), 7 V+ (power), 8 NC

## AD549KH
designator U?
Ultra-Low Input Bias Current Operational Amplifier; Package Information: Latest Revision: 1993; Note: Guard Pin 8 connected to case; Published: 8-Jun-2000; Revision: 17-Jul-2002: Re-released for DXP Platform.; Datasheet: Latest Revision: REV. A; Package Reference: H-08A_D; Publisher: Altium Limited
footprint H-08A_D (Can; 8 Leads; Pin Circle Dia. 5.08 mm; Lead Dia. 0.48 mm (max))
pins: 1 OS NULL, 2 IN- (in), 3 IN+ (in), 4 V- (power), 5 OS NULL, 6 OUT (out), 7 V+ (power), 8 NC

## AD549LH
designator U?
Ultra-Low Input Bias Current Operational Amplifier; Package Information: Latest Revision: 1993; Note: Guard Pin 8 connected to case; Published: 8-Jun-2000; Revision: 17-Jul-2002: Re-released for DXP Platform.; Datasheet: Latest Revision: REV. A; Package Reference: H-08A_D; Publisher: Altium Limited
footprint H-08A_D (Can; 8 Leads; Pin Circle Dia. 5.08 mm; Lead Dia. 0.48 mm (max))
pins: 1 OS NULL, 2 IN- (in), 3 IN+ (in), 4 V- (power), 5 OS NULL, 6 OUT (out), 7 V+ (power), 8 NC

## AD549SH
designator U?
Ultra-Low Input Bias Current Operational Amplifier; Package Information: Latest Revision: 1993; Note: Guard Pin 8 connected to case; Published: 8-Jun-2000; Revision: 17-Jul-2002: Re-released for DXP Platform.; Datasheet: Latest Revision: REV. A; Package Reference: H-08A_D; Publisher: Altium Limited
footprint H-08A_D (Can; 8 Leads; Pin Circle Dia. 5.08 mm; Lead Dia. 0.48 mm (max))
pins: 1 OS NULL, 2 IN- (in), 3 IN+ (in), 4 V- (power), 5 OS NULL, 6 OUT (out), 7 V+ (power), 8 NC

## AD549SH/883B
designator U?
Ultra-Low Input Bias Current Operational Amplifier; Package Information: Latest Revision: 1993; Note: Guard Pin 8 connected to case; Published: 8-Jun-2000; Revision: 17-Jul-2002: Re-released for DXP Platform.; Datasheet: Latest Revision: REV. A; Package Reference: H-08A_D; Publisher: Altium Limited
footprint H-08A_D (Can; 8 Leads; Pin Circle Dia. 5.08 mm; Lead Dia. 0.48 mm (max))
pins: 1 OS NULL, 2 IN- (in), 3 IN+ (in), 4 V- (power), 5 OS NULL, 6 OUT (out), 7 V+ (power), 8 NC

## AD642JH
designator U?
Precision, Low Cost Dual BiFET Operational Amplifier; Package Information: Latest Revision: 1990; Note: Pin 4 connected to case.; Code - JEDEC: MO-006-AH; Published: 8-Jun-2000; Revision: 17-Jul-2002: Re-released for DXP Platform.; Datasheet: Latest Revision: REV. 0; Package Reference: H-08B; Publisher: Altium Limited
footprint H-08B (Can; 8 Leads; Pin Circle Dia. 5.84 mm; Lead Dia. 0.53 mm (max))
pins on every part: 4 V- (power), 8 V+ (power)
part A pins: 1 OUT (out), 2 IN- (in), 3 IN+ (in)
part B pins: 5 IN+ (in), 6 IN- (in), 7 OUT (out)
part A text: A
part B text: B

## AD642KH
designator U?
Precision, Low Cost Dual BiFET Operational Amplifier; Package Information: Latest Revision: 1990; Note: Pin 4 connected to case.; Code - JEDEC: MO-006-AH; Published: 8-Jun-2000; Revision: 17-Jul-2002: Re-released for DXP Platform.; Datasheet: Latest Revision: REV. 0; Package Reference: H-08B; Publisher: Altium Limited
footprint H-08B (Can; 8 Leads; Pin Circle Dia. 5.84 mm; Lead Dia. 0.53 mm (max))
pins on every part: 4 V- (power), 8 V+ (power)
part A pins: 1 OUT (out), 2 IN- (in), 3 IN+ (in)
part B pins: 5 IN+ (in), 6 IN- (in), 7 OUT (out)
part A text: A
part B text: B

## AD642LH
designator U?
Precision, Low Cost Dual BiFET Operational Amplifier; Package Information: Latest Revision: 1990; Note: Pin 4 connected to case.; Code - JEDEC: MO-006-AH; Published: 8-Jun-2000; Revision: 17-Jul-2002: Re-released for DXP Platform.; Datasheet: Latest Revision: REV. 0; Package Reference: H-08B; Publisher: Altium Limited
footprint H-08B (Can; 8 Leads; Pin Circle Dia. 5.84 mm; Lead Dia. 0.53 mm (max))
pins on every part: 4 V- (power), 8 V+ (power)
part A pins: 1 OUT (out), 2 IN- (in), 3 IN+ (in)
part B pins: 5 IN+ (in), 6 IN- (in), 7 OUT (out)
part A text: A
part B text: B

## AD642SH
designator U?
Precision, Low Cost Dual BiFET Operational Amplifier; Package Information: Latest Revision: 1990; Note: Pin 4 connected to case.; Code - JEDEC: MO-006-AH; Published: 8-Jun-2000; Revision: 17-Jul-2002: Re-released for DXP Platform.; Datasheet: Latest Revision: REV. 0; Package Reference: H-08B; Publisher: Altium Limited
footprint H-08B (Can; 8 Leads; Pin Circle Dia. 5.84 mm; Lead Dia. 0.53 mm (max))
pins on every part: 4 V- (power), 8 V+ (power)
part A pins: 1 OUT (out), 2 IN- (in), 3 IN+ (in)
part B pins: 5 IN+ (in), 6 IN- (in), 7 OUT (out)
part A text: A
part B text: B

## AD642SH/883B
designator U?
Precision, Low Cost Dual BiFET Op Amp; Package Information: Latest Revision: 1990; Note: Pin 4 connected to case.; Code - JEDEC: MO-006-AH; Published: 8-Jun-2000; Revision: 17-Jul-2002: Re-released for DXP Platform.; Datasheet: Latest Revision: REV. 0; Package Reference: H-08B; Publisher: Altium Limited
footprint H-08B (Can; 8 Leads; Pin Circle Dia. 5.84 mm; Lead Dia. 0.53 mm (max))
pins on every part: 4 V- (power), 8 V+ (power)
part A pins: 1 OUT (out), 2 IN- (in), 3 IN+ (in)
part B pins: 5 IN+ (in), 6 IN- (in), 7 OUT (out)
part A text: A
part B text: B

## AD644JH
designator U?
Dual High-Speed, Implanted BiFET Operational Amplifier; Package Information: Latest Revision: 1990; Note: Pin 4 connected to case.; Code - JEDEC: MO-006-AH; Published: 8-Jun-2000; Revision: 17-Jul-2002: Re-released for DXP Platform.; Datasheet: Latest Revision: REV. A; Package Reference: H-08B; Publisher: Altium Limited
footprint H-08B (Can; 8 Leads; Pin Circle Dia. 5.84 mm; Lead Dia. 0.53 mm (max))
pins on every part: 4 V- (power), 8 V+ (power)
part A pins: 1 OUT (out), 2 IN- (in), 3 IN+ (in)
part B pins: 5 IN+ (in), 6 IN- (in), 7 OUT (out)
part A text: A
part B text: B

## AD644KH
designator U?
Dual High-Speed, Implanted BiFET Operational Amplifier; Package Information: Latest Revision: 1990; Note: Pin 4 connected to case.; Code - JEDEC: MO-006-AH; Published: 8-Jun-2000; Revision: 17-Jul-2002: Re-released for DXP Platform.; Datasheet: Latest Revision: REV. A; Package Reference: H-08B; Publisher: Altium Limited
footprint H-08B (Can; 8 Leads; Pin Circle Dia. 5.84 mm; Lead Dia. 0.53 mm (max))
pins on every part: 4 V- (power), 8 V+ (power)
part A pins: 1 OUT (out), 2 IN- (in), 3 IN+ (in)
part B pins: 5 IN+ (in), 6 IN- (in), 7 OUT (out)
part A text: A
part B text: B

## AD644LH
designator U?
Dual High-Speed, Implanted BiFET Operational Amplifier; Package Information: Latest Revision: 1990; Note: Pin 4 connected to case.; Code - JEDEC: MO-006-AH; Published: 8-Jun-2000; Revision: 17-Jul-2002: Re-released for DXP Platform.; Datasheet: Latest Revision: REV. A; Package Reference: H-08B; Publisher: Altium Limited
footprint H-08B (Can; 8 Leads; Pin Circle Dia. 5.84 mm; Lead Dia. 0.53 mm (max))
pins on every part: 4 V- (power), 8 V+ (power)
part A pins: 1 OUT (out), 2 IN- (in), 3 IN+ (in)
part B pins: 5 IN+ (in), 6 IN- (in), 7 OUT (out)
part A text: A
part B text: B

## AD644SH
designator U?
Dual High-Speed, Implanted BiFET Operational Amplifier; Package Information: Latest Revision: 1990; Note: Pin 4 connected to case.; Code - JEDEC: MO-006-AH; Published: 8-Jun-2000; Revision: 17-Jul-2002: Re-released for DXP Platform.; Datasheet: Latest Revision: REV. A; Package Reference: H-08B; Publisher: Altium Limited
footprint H-08B (Can; 8 Leads; Pin Circle Dia. 5.84 mm; Lead Dia. 0.53 mm (max))
pins on every part: 4 V- (power), 8 V+ (power)
part A pins: 1 OUT (out), 2 IN- (in), 3 IN+ (in)
part B pins: 5 IN+ (in), 6 IN- (in), 7 OUT (out)
part A text: A
part B text: B

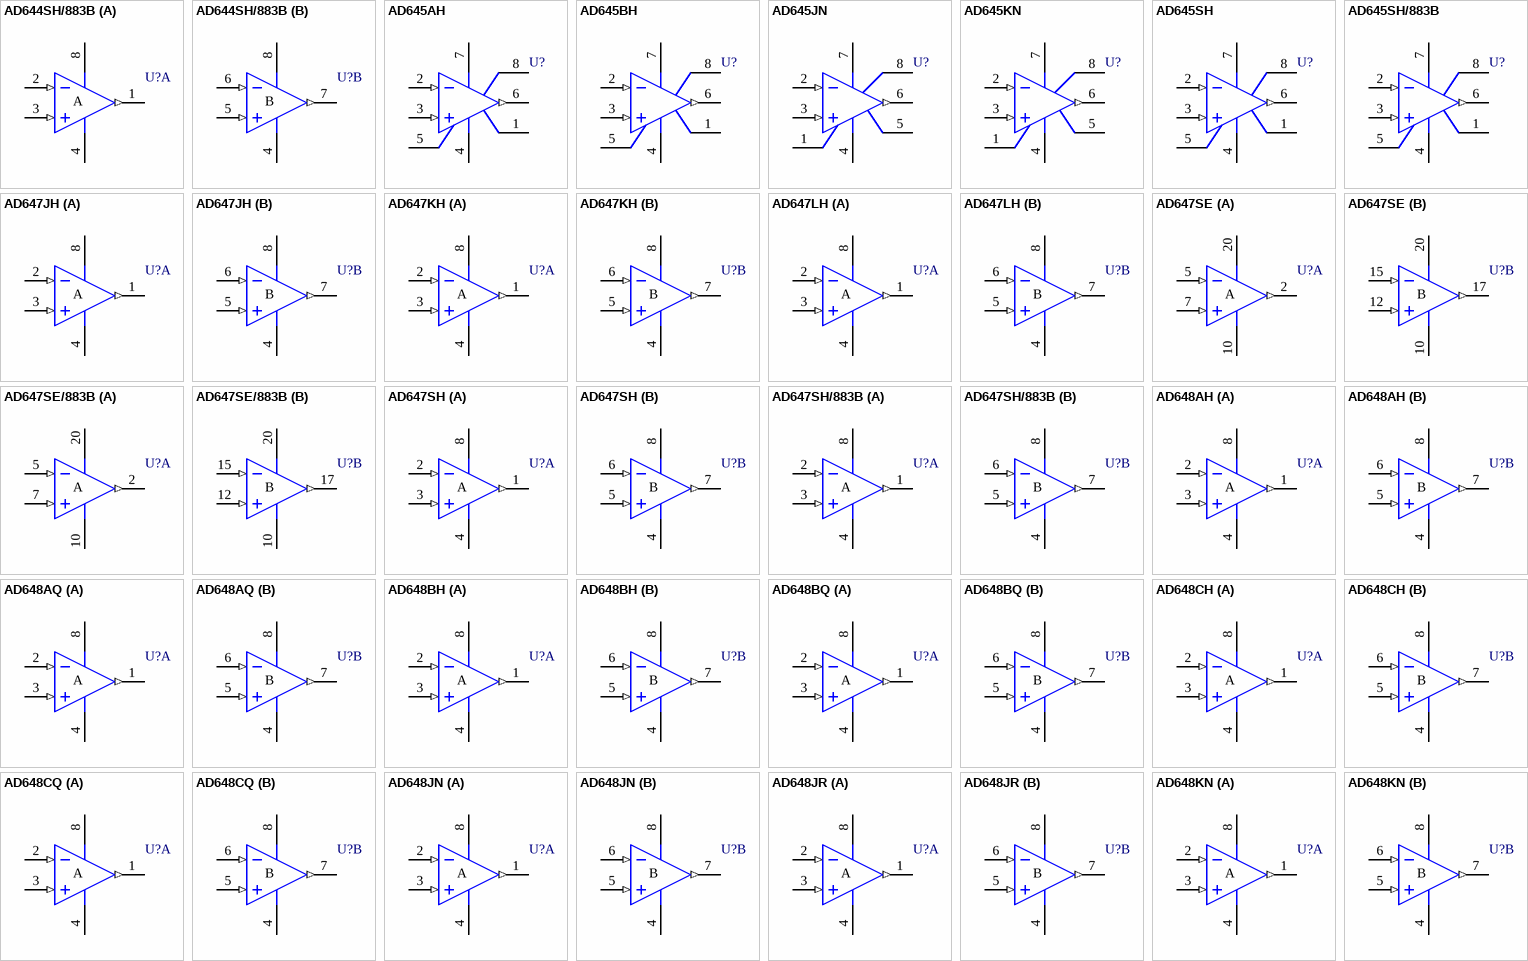
[diagram p2: symbols AD644SH/883B to AD648KN]

## AD644SH/883B
designator U?
Dual High-Speed, Implanted BiFET Op Amp; Package Information: Latest Revision: 1990; Note: Pin 4 connected to case.; Code - JEDEC: MO-006-AH; Published: 8-Jun-2000; Revision: 17-Jul-2002: Re-released for DXP Platform.; Datasheet: Latest Revision: REV. A; Package Reference: H-08B; Publisher: Altium Limited
footprint H-08B (Can; 8 Leads; Pin Circle Dia. 5.84 mm; Lead Dia. 0.53 mm (max))
pins on every part: 4 V- (power), 8 V+ (power)
part A pins: 1 OUT (out), 2 IN- (in), 3 IN+ (in)
part B pins: 5 IN+ (in), 6 IN- (in), 7 OUT (out)
part A text: A
part B text: B

## AD645AH
designator U?
Low-Noise, Low Drift FET Operational Amplifier; Revision 1: 10-Jul-2000: SIM Model Added.; Revision 2: 17-Jul-2002: Re-released for DXP Platform.; Package Information: Latest Revision: 1990; Note: Pin 8 connected to case; Published: 8-Jun-2000; Datasheet: Latest Revision: REV. B; Package Reference: H-08A; Publisher: Altium Limited
footprint H-08A (Can; 8 Leads; Pin Circle Dia. 5.08 mm; Lead Dia. 0.53 mm (max))
simulation model AD645A (SUBCKT)
pins: 1 OS NUL, 2 IN- (in), 3 IN+ (in), 4 V- (power), 5 OS NUL, 6 OUT (out), 7 V+ (power), 8 TAB

## AD645BH
designator U?
Low-Noise, Low Drift FET Operational Amplifier; Revision 1: 10-Jul-2000: SIM Model Added.; Revision 2: 17-Jul-2002: Re-released for DXP Platform.; Package Information: Latest Revision: 1990; Note: Pin 8 connected to case; Published: 8-Jun-2000; Datasheet: Latest Revision: REV. B; Package Reference: H-08A; Publisher: Altium Limited
footprint H-08A (Can; 8 Leads; Pin Circle Dia. 5.08 mm; Lead Dia. 0.53 mm (max))
simulation model AD645B (SUBCKT)
pins: 1 OS NUL, 2 IN- (in), 3 IN+ (in), 4 V- (power), 5 OS NUL, 6 OUT (out), 7 V+ (power), 8 TAB

## AD645JN
designator U?
Low-Noise, Low Drift FET Operational Amplifier; Revision 1: 10-Jul-2000: SIM Model Added.; Revision 2: 17-Jul-2002: Re-released for DXP Platform.; Note: Pin 8 is not connected.; Code - JEDEC: MO-001-AN; Published: 8-Jun-2000; Datasheet: Latest Revision: REV. B; Package Reference: N-8_A; Publisher: Altium Limited
footprint N-8_A (DIP; 8 Leads; Row Spacing 7.62 mm; Pitch 2.54 mm)
simulation model AD645J (SUBCKT)
pins: 1 OS NULL, 2 IN- (in), 3 IN+ (in), 4 V- (power), 5 OS NULL, 6 OUT (out), 7 V+ (power), 8 NC

## AD645KN
designator U?
Low-Noise, Low Drift FET Operational Amplifier; Revision 1: 10-Jul-2000: SIM Model Added.; Revision 2: 17-Jul-2002: Re-released for DXP Platform.; Note: Pin 8 is not connected.; Code - JEDEC: MO-001-AN; Published: 8-Jun-2000; Datasheet: Latest Revision: REV. B; Package Reference: N-8_A; Publisher: Altium Limited
footprint N-8_A (DIP; 8 Leads; Row Spacing 7.62 mm; Pitch 2.54 mm)
simulation model AD645K (SUBCKT)
pins: 1 OS NULL, 2 IN- (in), 3 IN+ (in), 4 V- (power), 5 OS NULL, 6 OUT (out), 7 V+ (power), 8 NC

## AD645SH
designator U?
Low-Noise, Low Drift FET Operational Amplifier; Revision 1: 10-Jul-2000: SIM Model Added.; Revision 2: 17-Jul-2002: Re-released for DXP Platform.; Package Information: Latest Revision: 1990; Note: Pin 8 connected to case; Published: 8-Jun-2000; Datasheet: Amplifier Reference Manual (1992); Package Reference: H-08A; Publisher: Altium Limited
footprint H-08A (Can; 8 Leads; Pin Circle Dia. 5.08 mm; Lead Dia. 0.53 mm (max))
simulation model AD645S (SUBCKT)
pins: 1 OS NUL, 2 IN- (in), 3 IN+ (in), 4 V- (power), 5 OS NUL, 6 OUT (out), 7 V+ (power), 8 TAB

## AD645SH/883B
designator U?
Low-Noise, Low Drift FET Operational Amplifier; Revision 1: 10-Jul-2000: SIM Model Added.; Revision 2: 17-Jul-2002: Re-released for DXP Platform.; Package Information: Latest Revision: 1990; Note: Pin 8 connected to case; Published: 8-Jun-2000; Datasheet: Latest Revision: REV. B; Package Reference: H-08A; Publisher: Altium Limited
footprint H-08A (Can; 8 Leads; Pin Circle Dia. 5.08 mm; Lead Dia. 0.53 mm (max))
simulation model AD645S (SUBCKT)
pins: 1 OS NUL, 2 IN- (in), 3 IN+ (in), 4 V- (power), 5 OS NUL, 6 OUT (out), 7 V+ (power), 8 TAB

## AD647JH
designator U?
Ultra-Low Drift, Dual BiFET Operational Amplifier; Package Information: Latest Revision: 1990; Note: Pin 4 connected to case.; Code - JEDEC: MO-006-AH; Published: 8-Jun-2000; Revision: 17-Jul-2002: Re-released for DXP Platform.; Datasheet: Latest Revision: REV. A; Package Reference: H-08B; Publisher: Altium Limited
footprint H-08B (Can; 8 Leads; Pin Circle Dia. 5.84 mm; Lead Dia. 0.53 mm (max))
pins on every part: 4 V- (power), 8 V+ (power)
part A pins: 1 OUT (out), 2 IN- (in), 3 IN+ (in)
part B pins: 5 IN+ (in), 6 IN- (in), 7 OUT (out)
part A text: A
part B text: B

## AD647KH
designator U?
Ultra-Low Drift, Dual BiFET Operational Amplifier; Package Information: Latest Revision: 1990; Note: Pin 4 connected to case.; Code - JEDEC: MO-006-AH; Published: 8-Jun-2000; Revision: 17-Jul-2002: Re-released for DXP Platform.; Datasheet: Latest Revision: REV. A; Package Reference: H-08B; Publisher: Altium Limited
footprint H-08B (Can; 8 Leads; Pin Circle Dia. 5.84 mm; Lead Dia. 0.53 mm (max))
pins on every part: 4 V- (power), 8 V+ (power)
part A pins: 1 OUT (out), 2 IN- (in), 3 IN+ (in)
part B pins: 5 IN+ (in), 6 IN- (in), 7 OUT (out)
part A text: A
part B text: B

## AD647LH
designator U?
Ultra-Low Drift, Dual BiFET Operational Amplifier; Package Information: Latest Revision: 1990; Note: Pin 4 connected to case.; Code - JEDEC: MO-006-AH; Published: 8-Jun-2000; Revision: 17-Jul-2002: Re-released for DXP Platform.; Datasheet: Latest Revision: REV. A; Package Reference: H-08B; Publisher: Altium Limited
footprint H-08B (Can; 8 Leads; Pin Circle Dia. 5.84 mm; Lead Dia. 0.53 mm (max))
pins on every part: 4 V- (power), 8 V+ (power)
part A pins: 1 OUT (out), 2 IN- (in), 3 IN+ (in)
part B pins: 5 IN+ (in), 6 IN- (in), 7 OUT (out)
part A text: A
part B text: B

## AD647SE
designator U?
Ultra-Low Drift, Dual BiFET Operational Amplifier; Note: Pins 1, 3, 4, 6, 8, 9, 11, 13, 14, 16, 18, and 19 are not connected (NC) and are not drawn.; Published: 8-Jun-2000; Revision: 17-Jul-2002: Re-released for DXP Platform.; Datasheet: Latest Revision: REV. A; Package Reference: E-20A; Publisher: Altium Limited
footprint E-20A (Leadless Chip Carrier; 20 Terminals; Body 8.9 x 8.9 mm)
pins on every part: 10 V- (power), 20 V+ (power)
part A pins: 2 OUT (out), 5 IN- (in), 7 IN+ (in)
part B pins: 12 IN+ (in), 15 IN- (in), 17 OUT (out)
part A text: A
part B text: B

## AD647SE/883B
designator U?
Ultra-Low Drift, Dual BiFET Operational Amplifier; Note: Pins 1, 3, 4, 6, 8, 9, 11, 13, 14, 16, 18, and 19 are not connected; Published: 8-Jun-2000; Revision: 17-Jul-2002: Re-released for DXP Platform.; Datasheet: Amplifier Reference Manual (1992); Package Reference: E-20A; Publisher: Altium Limited
footprint E-20A (Leadless Chip Carrier; 20 Terminals; Body 8.9 x 8.9 mm)
pins on every part: 10 V- (power), 20 V+ (power)
part A pins: 2 OUT (out), 5 IN- (in), 7 IN+ (in)
part B pins: 12 IN+ (in), 15 IN- (in), 17 OUT (out)
part A text: A
part B text: B

## AD647SH
designator U?
Ultra-Low Drift, Dual BiFET Operational Amplifier; Package Information: Latest Revision: 1990; Note: Pin 4 connected to case.; Code - JEDEC: MO-006-AH; Published: 8-Jun-2000; Revision: 17-Jul-2002: Re-released for DXP Platform.; Datasheet: Latest Revision: REV. A; Package Reference: H-08B; Publisher: Altium Limited
footprint H-08B (Can; 8 Leads; Pin Circle Dia. 5.84 mm; Lead Dia. 0.53 mm (max))
pins on every part: 4 V- (power), 8 V+ (power)
part A pins: 1 OUT (out), 2 IN- (in), 3 IN+ (in)
part B pins: 5 IN+ (in), 6 IN- (in), 7 OUT (out)
part A text: A
part B text: B

## AD647SH/883B
designator U?
Ultra-Low Drift, Dual BiFET Op Amp; Package Information: Latest Revision: 1990; Note: Pin 4 connected to case.; Code - JEDEC: MO-006-AH; Published: 8-Jun-2000; Revision: 17-Jul-2002: Re-released for DXP Platform.; Datasheet: Latest Revision: REV. A; Package Reference: H-08B; Publisher: Altium Limited
footprint H-08B (Can; 8 Leads; Pin Circle Dia. 5.84 mm; Lead Dia. 0.53 mm (max))
pins on every part: 4 V- (power), 8 V+ (power)
part A pins: 1 OUT (out), 2 IN- (in), 3 IN+ (in)
part B pins: 5 IN+ (in), 6 IN- (in), 7 OUT (out)
part A text: A
part B text: B

## AD648AH
designator U?
Dual Precision, Low-Power BiFET Operational Amplifier; Package Information: Latest Revision: 1993; Note: Pin 4 connected to case.; Published: 8-Jun-2000; Revision: 17-Jul-2002: Re-released for DXP Platform.; Datasheet: Latest Revision: REV. C; Package Reference: H-08A_D; Publisher: Altium Limited
footprint H-08A_D (Can; 8 Leads; Pin Circle Dia. 5.08 mm; Lead Dia. 0.48 mm (max))
pins on every part: 4 V- (power), 8 V+ (power)
part A pins: 1 OUT (out), 2 IN- (in), 3 IN+ (in)
part B pins: 5 IN+ (in), 6 IN- (in), 7 OUT (out)
part A text: A
part B text: B

## AD648AQ
designator U?
Dual Precision, Low-Power BiFET Operational Amplifier; Package Information: Latest Revision: 1998; Published: 8-Jun-2000; Revision: 17-Jul-2002: Re-released for DXP Platform.; Datasheet: Latest Revision: REV. C; Package Reference: Q-8; Publisher: Altium Limited
footprint Q-8 (DIP; 8 Leads; Row Spacing 7.62 mm; Pitch 2.54 mm)
pins on every part: 4 V- (power), 8 V+ (power)
part A pins: 1 OUT (out), 2 IN- (in), 3 IN+ (in)
part B pins: 5 IN+ (in), 6 IN- (in), 7 OUT (out)
part A text: A
part B text: B

## AD648BH
designator U?
Dual Precision, Low-Power BiFET Operational Amplifier; Package Information: Latest Revision: 1993; Published: 8-Jun-2000; Revision: 17-Jul-2002: Re-released for DXP Platform.; Datasheet: Latest Revision: REV. C; Package Reference: H-08A_D; Publisher: Altium Limited
footprint H-08A_D (Can; 8 Leads; Pin Circle Dia. 5.08 mm; Lead Dia. 0.48 mm (max))
pins on every part: 4 V- (power), 8 V+ (power)
part A pins: 1 OUT (out), 2 IN- (in), 3 IN+ (in)
part B pins: 5 IN+ (in), 6 IN- (in), 7 OUT (out)
part A text: A
part B text: B

## AD648BQ
designator U?
Dual Precision, Low-Power BiFET Operational Amplifier; Package Information: Latest Revision: 1998; Published: 8-Jun-2000; Revision: 17-Jul-2002: Re-released for DXP Platform.; Datasheet: Latest Revision: REV. C; Package Reference: Q-8; Publisher: Altium Limited
footprint Q-8 (DIP; 8 Leads; Row Spacing 7.62 mm; Pitch 2.54 mm)
pins on every part: 4 V- (power), 8 V+ (power)
part A pins: 1 OUT (out), 2 IN- (in), 3 IN+ (in)
part B pins: 5 IN+ (in), 6 IN- (in), 7 OUT (out)
part A text: A
part B text: B

## AD648CH
designator U?
Dual Precision, Low-Power BiFET Operational Amplifier; Package Information: Latest Revision: 1990; Note: Pin 4 connected to case.; Published: 8-Jun-2000; Revision: 17-Jul-2002: Re-released for DXP Platform.; Datasheet: Amplifier Reference Manual (1992); Package Reference: H-08A; Publisher: Altium Limited
footprint H-08A (Can; 8 Leads; Pin Circle Dia. 5.08 mm; Lead Dia. 0.53 mm (max))
pins on every part: 4 V- (power), 8 V+ (power)
part A pins: 1 OUT (out), 2 IN- (in), 3 IN+ (in)
part B pins: 5 IN+ (in), 6 IN- (in), 7 OUT (out)
part A text: A
part B text: B

## AD648CQ
designator U?
Dual Precision, Low-Power BiFET Operational Amplifier; Package Information: Latest Revision: 1998; Published: 8-Jun-2000; Revision: 17-Jul-2002: Re-released for DXP Platform.; Datasheet: Latest Revision: REV. C; Package Reference: Q-8; Publisher: Altium Limited
footprint Q-8 (DIP; 8 Leads; Row Spacing 7.62 mm; Pitch 2.54 mm)
pins on every part: 4 V- (power), 8 V+ (power)
part A pins: 1 OUT (out), 2 IN- (in), 3 IN+ (in)
part B pins: 5 IN+ (in), 6 IN- (in), 7 OUT (out)
part A text: A
part B text: B

## AD648JN
designator U?
Dual Precision, Low-Power BiFET Operational Amplifier; Package Information: Latest Revision: revA; Published: 8-Jun-2000; Revision: 17-Jul-2002: Re-released for DXP Platform.; Datasheet: Latest Revision: REV. C; Package Reference: N-8; Publisher: Altium Limited
footprint N-8 (DIP; 8 Leads; Row Spacing 7.62 mm; Pitch 2.54 mm)
pins on every part: 4 V- (power), 8 V+ (power)
part A pins: 1 OUT (out), 2 IN- (in), 3 IN+ (in)
part B pins: 5 IN+ (in), 6 IN- (in), 7 OUT (out)
part A text: A
part B text: B

## AD648JR
designator U?
Dual Precision, Low-Power BiFET Operational Amplifier; Package Information: Latest Revision: REV. B; Code - JEDEC: MS-012-AA; Code - IPC: SO8; Published: 8-Jun-2000; Revision: 17-Jul-2002: Re-released for DXP Platform.; Datasheet: Latest Revision: REV. C; Package Reference: R-8; Publisher: Altium Limited
footprint R-8 (Small Outline; 8 Leads; Body Width 3.9 mm; Pitch 1.27 mm)
pins on every part: 4 V- (power), 8 V+ (power)
part A pins: 1 OUT (out), 2 IN- (in), 3 IN+ (in)
part B pins: 5 IN+ (in), 6 IN- (in), 7 OUT (out)
part A text: A
part B text: B

## AD648KN
designator U?
Dual Precision, Low-Power BiFET Operational Amplifier; Package Information: Latest Revision: revA; Published: 8-Jun-2000; Revision: 17-Jul-2002: Re-released for DXP Platform.; Datasheet: Latest Revision: REV. C; Package Reference: N-8; Publisher: Altium Limited
footprint N-8 (DIP; 8 Leads; Row Spacing 7.62 mm; Pitch 2.54 mm)
pins on every part: 4 V- (power), 8 V+ (power)
part A pins: 1 OUT (out), 2 IN- (in), 3 IN+ (in)
part B pins: 5 IN+ (in), 6 IN- (in), 7 OUT (out)
part A text: A
part B text: B

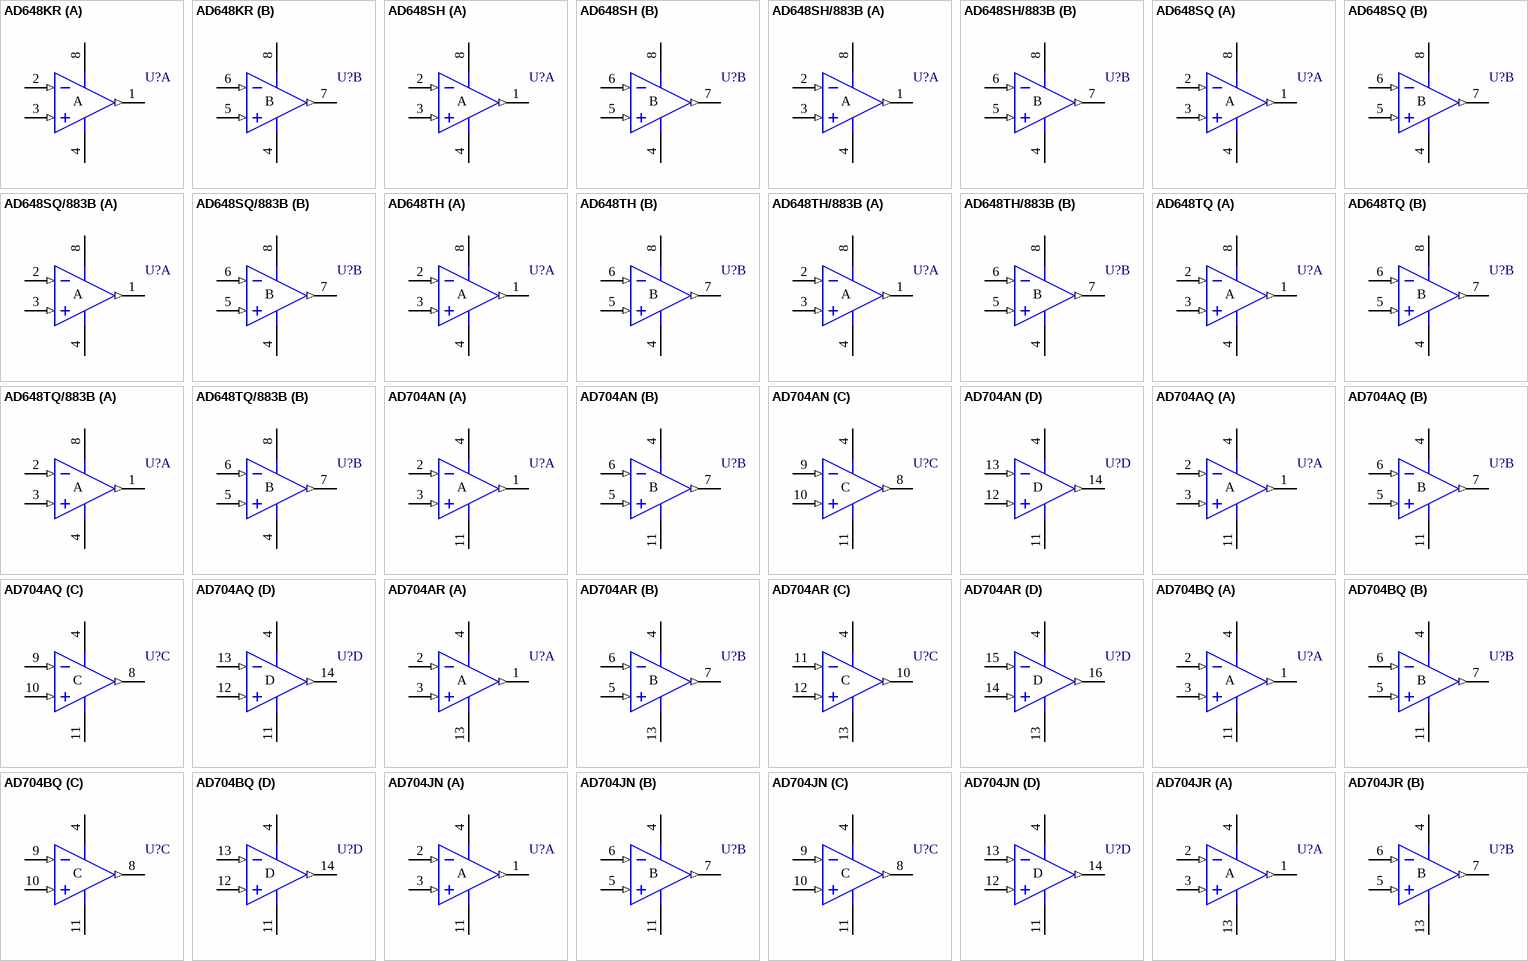
[diagram p3: symbols AD648KR to AD704JR]

## AD648KR
designator U?
Dual Precision, Low-Power BiFET Operational Amplifier; Package Information: Latest Revision: REV. B; Code - JEDEC: MS-012-AA; Code - IPC: SO8; Published: 8-Jun-2000; Revision: 17-Jul-2002: Re-released for DXP Platform.; Datasheet: Latest Revision: REV. C; Package Reference: R-8; Publisher: Altium Limited
footprint R-8 (Small Outline; 8 Leads; Body Width 3.9 mm; Pitch 1.27 mm)
pins on every part: 4 V- (power), 8 V+ (power)
part A pins: 1 OUT (out), 2 IN- (in), 3 IN+ (in)
part B pins: 5 IN+ (in), 6 IN- (in), 7 OUT (out)
part A text: A
part B text: B